# Altium schematic symbol library ADC.SchLib: 1 symbol
Pins are listed as number, name and electrical type; pins without a type are passive.

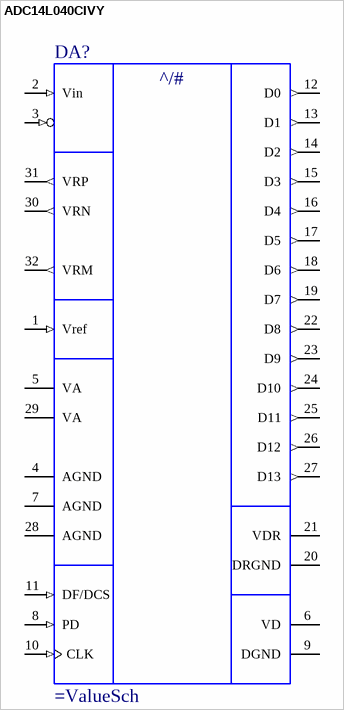
[diagram p0: symbol ADC14L040CIVY]

## ADC14L040CIVY
designator DA?
14-Bit 40MSPS A/D Converter
pins: 1 Vref (in) "V_REF selector", 2 Vin (in) "Vin+", 3 Vin- (in), 4 AGND (power) "Analog GND", 5 VA (power) "Analog power supply", 6 VD (power) "Digital power supply", 7 AGND (power) "Analog GND", 8 PD (in) "Power Down input pin", 9 DGND (power) "Digital GND", 10 CLK (in) "Digital clock input.", 11 DF/DCS (in) "Fout-state pin select format", 12 D0 (out) "Digital data output", 13 D1 (out) "Digital data output", 14 D2 (out) "Digital data output", 15 D3 (out) "Digital data output", 16 D4 (out) "Digital data output", 17 D5 (out) "Digital data output", 18 D6 (out) "Digital data output", 19 D7 (out) "Digital data output", 20 DRGND (power) "Digital outputs driver GND", 21 VDR (power) "Digital outputs driver power supply", 22 D8 (out) "Digital data output", 23 D9 (out) "Digital data output", 24 D10 (out) "Digital data output", 25 D11 (out) "Digital data output", 26 D12 (out) "Digital data output", 27 D13 (out) "Digital data output", 28 AGND (power) "Analog GND", 29 VA (power) "Analog power supply", 30 VRN (out) "Negative reference voltage", 31 VRP (out) "Positive reference voltage", 32 VRM (out) "Medium reference voltage"
text: ^/#